# EAGLE library part PCF2123 (library PCB_KioskMB_r3.3-05)
RTC chip low power
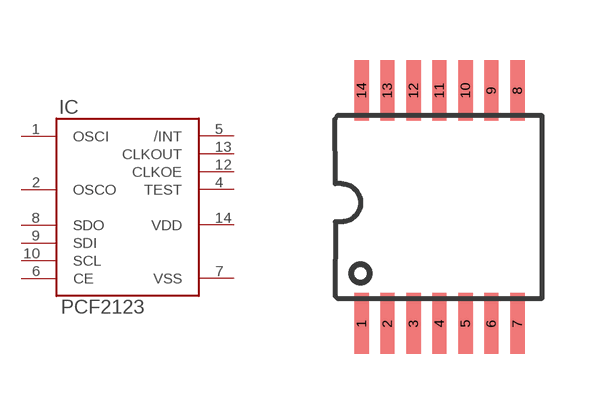
[diagram p21: symbol with the pads of TSSOP014; footprint TSSOP014]

Designator prefix IC

## PCF2123TS/1-T  [TSSOP014]
1  OSCI  in
2  OSCO  out
4  TEST  out
5  /INT  out
6  CE  in
7  VSS  pwr
8  SDO  out
9  SDI  in
10  SCL  in
12  CLKOE  in
13  CLKOUT  out
14  VDD  pwr

## Footprint TSSOP014 (pad centres in mm)
Pitch 0.65
smd 0.356 x 1.524: 1 -1.95,-2.873; 2 -1.305,-2.873; 3 -0.65,-2.873; 4 -0.005,-2.873; 5 0.65,-2.873; 6 1.295,-2.873; 7 1.95,-2.873; 8 1.95,2.962; 9 1.295,2.962; 10 0.65,2.962; 11 -0.005,2.962; 12 -0.65,2.962; 13 -1.305,2.962; 14 -1.95,2.962